# Altium footprint library Diod.PcbLib: 392 footprints (part 3 of 25)
Each footprint in its own frame and in the unit in brackets; x right, y up, seen from the top. Pads: shape width x height; smd on the part's side, far side on the other; paste and mask are expansions set on the pad; w line width, h text height; cw(c..) or ccw(c..) is an arc to the next point about the centre after c.
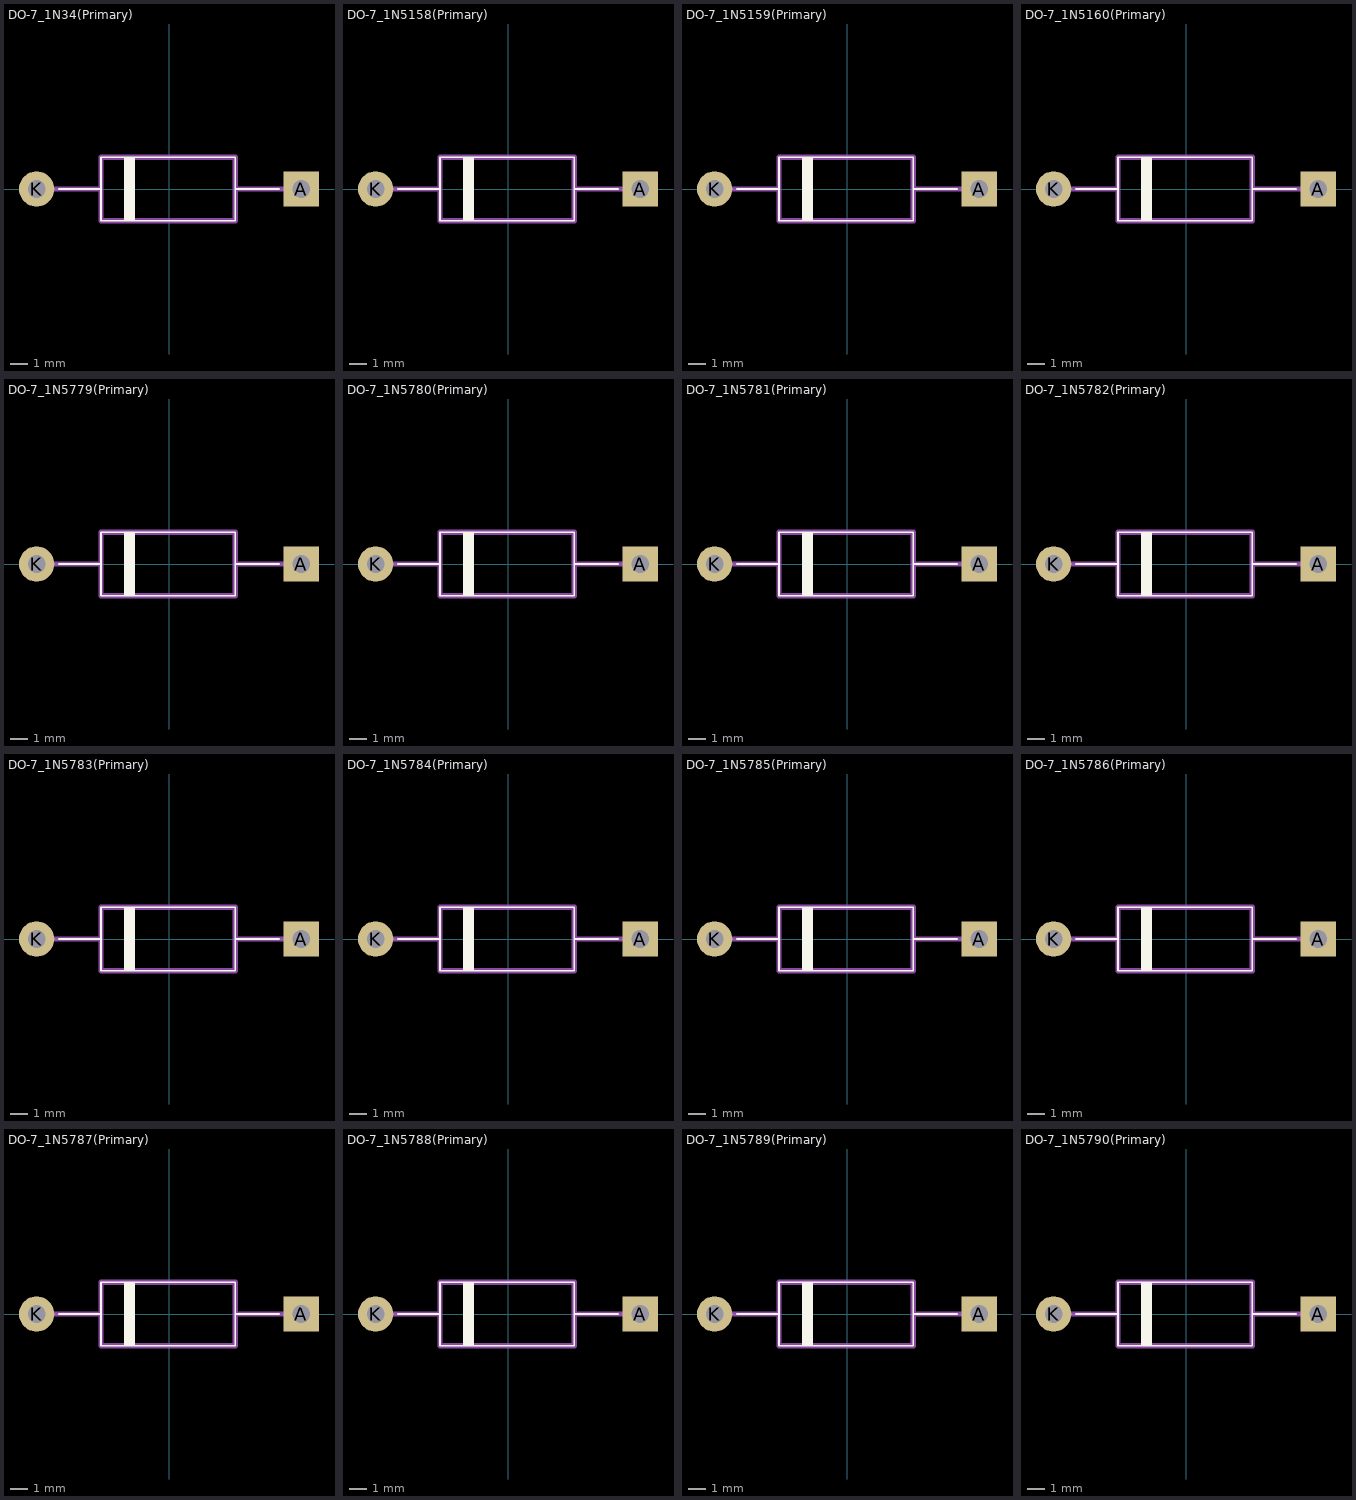
[diagram p2: the footprints below, top view; thin cyan lines are the x and y axes]

## DO-7_1N34(Primary) [mm]
pads (2):
  rect 2x2 hole 1: A(7.5,0)
  round 2 hole 1: K(-7.5,0)
Top Overlay:
  region: -2.55,-1.8 -1.95,-1.8 -1.95,1.8 -2.55,1.8
  lines w0.1: -6.25,0 -3.85,0 ; 6.25,0 3.75,0 ; 3.75,0 3.75,1.8 -3.85,1.8 -3.85,-1.8 3.75,-1.8 3.75,0
Mechanical 1:
  region: -2.55,-1.8 -1.95,-1.8 -1.95,1.8 -2.55,1.8
  lines w0.3: -7.5,0 -3.85,0 ; 7.5,0 3.75,0 ; 3.75,0 3.75,1.8 -3.85,1.8 -3.85,-1.8 3.75,-1.8 3.75,0

## DO-7_1N5158(Primary) [mm]
pads (2):
  rect 2x2 hole 1: A(7.5,0)
  round 2 hole 1: K(-7.5,0)
Top Overlay:
  region: -2.55,-1.8 -1.95,-1.8 -1.95,1.8 -2.55,1.8
  lines w0.1: -6.25,0 -3.85,0 ; 6.25,0 3.75,0 ; 3.75,0 3.75,1.8 -3.85,1.8 -3.85,-1.8 3.75,-1.8 3.75,0
Mechanical 1:
  region: -2.55,-1.8 -1.95,-1.8 -1.95,1.8 -2.55,1.8
  lines w0.3: -7.5,0 -3.85,0 ; 7.5,0 3.75,0 ; 3.75,0 3.75,1.8 -3.85,1.8 -3.85,-1.8 3.75,-1.8 3.75,0

## DO-7_1N5159(Primary) [mm]
pads (2):
  rect 2x2 hole 1: A(7.5,0)
  round 2 hole 1: K(-7.5,0)
Top Overlay:
  region: -2.55,-1.8 -1.95,-1.8 -1.95,1.8 -2.55,1.8
  lines w0.1: -6.25,0 -3.85,0 ; 6.25,0 3.75,0 ; 3.75,0 3.75,1.8 -3.85,1.8 -3.85,-1.8 3.75,-1.8 3.75,0
Mechanical 1:
  region: -2.55,-1.8 -1.95,-1.8 -1.95,1.8 -2.55,1.8
  lines w0.3: -7.5,0 -3.85,0 ; 7.5,0 3.75,0 ; 3.75,0 3.75,1.8 -3.85,1.8 -3.85,-1.8 3.75,-1.8 3.75,0

## DO-7_1N5160(Primary) [mm]
pads (2):
  rect 2x2 hole 1: A(7.5,0)
  round 2 hole 1: K(-7.5,0)
Top Overlay:
  region: -2.55,-1.8 -1.95,-1.8 -1.95,1.8 -2.55,1.8
  lines w0.1: -6.25,0 -3.85,0 ; 6.25,0 3.75,0 ; 3.75,0 3.75,1.8 -3.85,1.8 -3.85,-1.8 3.75,-1.8 3.75,0
Mechanical 1:
  region: -2.55,-1.8 -1.95,-1.8 -1.95,1.8 -2.55,1.8
  lines w0.3: -7.5,0 -3.85,0 ; 7.5,0 3.75,0 ; 3.75,0 3.75,1.8 -3.85,1.8 -3.85,-1.8 3.75,-1.8 3.75,0

## DO-7_1N5779(Primary) [mm]
pads (2):
  rect 2x2 hole 1: A(7.5,0)
  round 2 hole 1: K(-7.5,0)
Top Overlay:
  region: -2.55,-1.8 -1.95,-1.8 -1.95,1.8 -2.55,1.8
  lines w0.1: -6.25,0 -3.85,0 ; 6.25,0 3.75,0 ; 3.75,0 3.75,1.8 -3.85,1.8 -3.85,-1.8 3.75,-1.8 3.75,0
Mechanical 1:
  region: -2.55,-1.8 -1.95,-1.8 -1.95,1.8 -2.55,1.8
  lines w0.3: -7.5,0 -3.85,0 ; 7.5,0 3.75,0 ; 3.75,0 3.75,1.8 -3.85,1.8 -3.85,-1.8 3.75,-1.8 3.75,0

## DO-7_1N5780(Primary) [mm]
pads (2):
  rect 2x2 hole 1: A(7.5,0)
  round 2 hole 1: K(-7.5,0)
Top Overlay:
  region: -2.55,-1.8 -1.95,-1.8 -1.95,1.8 -2.55,1.8
  lines w0.1: -6.25,0 -3.85,0 ; 6.25,0 3.75,0 ; 3.75,0 3.75,1.8 -3.85,1.8 -3.85,-1.8 3.75,-1.8 3.75,0
Mechanical 1:
  region: -2.55,-1.8 -1.95,-1.8 -1.95,1.8 -2.55,1.8
  lines w0.3: -7.5,0 -3.85,0 ; 7.5,0 3.75,0 ; 3.75,0 3.75,1.8 -3.85,1.8 -3.85,-1.8 3.75,-1.8 3.75,0

## DO-7_1N5781(Primary) [mm]
pads (2):
  rect 2x2 hole 1: A(7.5,0)
  round 2 hole 1: K(-7.5,0)
Top Overlay:
  region: -2.55,-1.8 -1.95,-1.8 -1.95,1.8 -2.55,1.8
  lines w0.1: -6.25,0 -3.85,0 ; 6.25,0 3.75,0 ; 3.75,0 3.75,1.8 -3.85,1.8 -3.85,-1.8 3.75,-1.8 3.75,0
Mechanical 1:
  region: -2.55,-1.8 -1.95,-1.8 -1.95,1.8 -2.55,1.8
  lines w0.3: -7.5,0 -3.85,0 ; 7.5,0 3.75,0 ; 3.75,0 3.75,1.8 -3.85,1.8 -3.85,-1.8 3.75,-1.8 3.75,0

## DO-7_1N5782(Primary) [mm]
pads (2):
  rect 2x2 hole 1: A(7.5,0)
  round 2 hole 1: K(-7.5,0)
Top Overlay:
  region: -2.55,-1.8 -1.95,-1.8 -1.95,1.8 -2.55,1.8
  lines w0.1: -6.25,0 -3.85,0 ; 6.25,0 3.75,0 ; 3.75,0 3.75,1.8 -3.85,1.8 -3.85,-1.8 3.75,-1.8 3.75,0
Mechanical 1:
  region: -2.55,-1.8 -1.95,-1.8 -1.95,1.8 -2.55,1.8
  lines w0.3: -7.5,0 -3.85,0 ; 7.5,0 3.75,0 ; 3.75,0 3.75,1.8 -3.85,1.8 -3.85,-1.8 3.75,-1.8 3.75,0

## DO-7_1N5783(Primary) [mm]
pads (2):
  rect 2x2 hole 1: A(7.5,0)
  round 2 hole 1: K(-7.5,0)
Top Overlay:
  region: -2.55,-1.8 -1.95,-1.8 -1.95,1.8 -2.55,1.8
  lines w0.1: -6.25,0 -3.85,0 ; 6.25,0 3.75,0 ; 3.75,0 3.75,1.8 -3.85,1.8 -3.85,-1.8 3.75,-1.8 3.75,0
Mechanical 1:
  region: -2.55,-1.8 -1.95,-1.8 -1.95,1.8 -2.55,1.8
  lines w0.3: -7.5,0 -3.85,0 ; 7.5,0 3.75,0 ; 3.75,0 3.75,1.8 -3.85,1.8 -3.85,-1.8 3.75,-1.8 3.75,0

## DO-7_1N5784(Primary) [mm]
pads (2):
  rect 2x2 hole 1: A(7.5,0)
  round 2 hole 1: K(-7.5,0)
Top Overlay:
  region: -2.55,-1.8 -1.95,-1.8 -1.95,1.8 -2.55,1.8
  lines w0.1: -6.25,0 -3.85,0 ; 6.25,0 3.75,0 ; 3.75,0 3.75,1.8 -3.85,1.8 -3.85,-1.8 3.75,-1.8 3.75,0
Mechanical 1:
  region: -2.55,-1.8 -1.95,-1.8 -1.95,1.8 -2.55,1.8
  lines w0.3: -7.5,0 -3.85,0 ; 7.5,0 3.75,0 ; 3.75,0 3.75,1.8 -3.85,1.8 -3.85,-1.8 3.75,-1.8 3.75,0

## DO-7_1N5785(Primary) [mm]
pads (2):
  rect 2x2 hole 1: A(7.5,0)
  round 2 hole 1: K(-7.5,0)
Top Overlay:
  region: -2.55,-1.8 -1.95,-1.8 -1.95,1.8 -2.55,1.8
  lines w0.1: -6.25,0 -3.85,0 ; 6.25,0 3.75,0 ; 3.75,0 3.75,1.8 -3.85,1.8 -3.85,-1.8 3.75,-1.8 3.75,0
Mechanical 1:
  region: -2.55,-1.8 -1.95,-1.8 -1.95,1.8 -2.55,1.8
  lines w0.3: -7.5,0 -3.85,0 ; 7.5,0 3.75,0 ; 3.75,0 3.75,1.8 -3.85,1.8 -3.85,-1.8 3.75,-1.8 3.75,0

## DO-7_1N5786(Primary) [mm]
pads (2):
  rect 2x2 hole 1: A(7.5,0)
  round 2 hole 1: K(-7.5,0)
Top Overlay:
  region: -2.55,-1.8 -1.95,-1.8 -1.95,1.8 -2.55,1.8
  lines w0.1: -6.25,0 -3.85,0 ; 6.25,0 3.75,0 ; 3.75,0 3.75,1.8 -3.85,1.8 -3.85,-1.8 3.75,-1.8 3.75,0
Mechanical 1:
  region: -2.55,-1.8 -1.95,-1.8 -1.95,1.8 -2.55,1.8
  lines w0.3: -7.5,0 -3.85,0 ; 7.5,0 3.75,0 ; 3.75,0 3.75,1.8 -3.85,1.8 -3.85,-1.8 3.75,-1.8 3.75,0

## DO-7_1N5787(Primary) [mm]
pads (2):
  rect 2x2 hole 1: A(7.5,0)
  round 2 hole 1: K(-7.5,0)
Top Overlay:
  region: -2.55,-1.8 -1.95,-1.8 -1.95,1.8 -2.55,1.8
  lines w0.1: -6.25,0 -3.85,0 ; 6.25,0 3.75,0 ; 3.75,0 3.75,1.8 -3.85,1.8 -3.85,-1.8 3.75,-1.8 3.75,0
Mechanical 1:
  region: -2.55,-1.8 -1.95,-1.8 -1.95,1.8 -2.55,1.8
  lines w0.3: -7.5,0 -3.85,0 ; 7.5,0 3.75,0 ; 3.75,0 3.75,1.8 -3.85,1.8 -3.85,-1.8 3.75,-1.8 3.75,0

## DO-7_1N5788(Primary) [mm]
pads (2):
  rect 2x2 hole 1: A(7.5,0)
  round 2 hole 1: K(-7.5,0)
Top Overlay:
  region: -2.55,-1.8 -1.95,-1.8 -1.95,1.8 -2.55,1.8
  lines w0.1: -6.25,0 -3.85,0 ; 6.25,0 3.75,0 ; 3.75,0 3.75,1.8 -3.85,1.8 -3.85,-1.8 3.75,-1.8 3.75,0
Mechanical 1:
  region: -2.55,-1.8 -1.95,-1.8 -1.95,1.8 -2.55,1.8
  lines w0.3: -7.5,0 -3.85,0 ; 7.5,0 3.75,0 ; 3.75,0 3.75,1.8 -3.85,1.8 -3.85,-1.8 3.75,-1.8 3.75,0

## DO-7_1N5789(Primary) [mm]
pads (2):
  rect 2x2 hole 1: A(7.5,0)
  round 2 hole 1: K(-7.5,0)
Top Overlay:
  region: -2.55,-1.8 -1.95,-1.8 -1.95,1.8 -2.55,1.8
  lines w0.1: -6.25,0 -3.85,0 ; 6.25,0 3.75,0 ; 3.75,0 3.75,1.8 -3.85,1.8 -3.85,-1.8 3.75,-1.8 3.75,0
Mechanical 1:
  region: -2.55,-1.8 -1.95,-1.8 -1.95,1.8 -2.55,1.8
  lines w0.3: -7.5,0 -3.85,0 ; 7.5,0 3.75,0 ; 3.75,0 3.75,1.8 -3.85,1.8 -3.85,-1.8 3.75,-1.8 3.75,0

## DO-7_1N5790(Primary) [mm]
pads (2):
  rect 2x2 hole 1: A(7.5,0)
  round 2 hole 1: K(-7.5,0)
Top Overlay:
  region: -2.55,-1.8 -1.95,-1.8 -1.95,1.8 -2.55,1.8
  lines w0.1: -6.25,0 -3.85,0 ; 6.25,0 3.75,0 ; 3.75,0 3.75,1.8 -3.85,1.8 -3.85,-1.8 3.75,-1.8 3.75,0
Mechanical 1:
  region: -2.55,-1.8 -1.95,-1.8 -1.95,1.8 -2.55,1.8
  lines w0.3: -7.5,0 -3.85,0 ; 7.5,0 3.75,0 ; 3.75,0 3.75,1.8 -3.85,1.8 -3.85,-1.8 3.75,-1.8 3.75,0